# EAGLE library part 831-3606 (library con-wago_7.62mm)
Serie 831, Stiftleiste (für Leiterplatten) mit geraden Einlötstiften / Series 831, Male header (for PCBs) with straight solder pins Polzahl / Pole No.: 6 Bemessungsspannung / Rated Voltage: 630 V Nennstrom / Nominal Current: 41 A Lötstiftlänge: / Solder Pin Length: 4 mm Farbe / Color: lichtgrau / light gray Stand: 01.01.2012. Die jeweils aktuellen Daten zu diesem Artikel finden Sie in unserem Produktkatalog, den Sie unter www.wago.com einsehen können. As of: 01/01/2012. Please find the newest data for this article in our product catalogue, which can be viewed under www.wago.com.
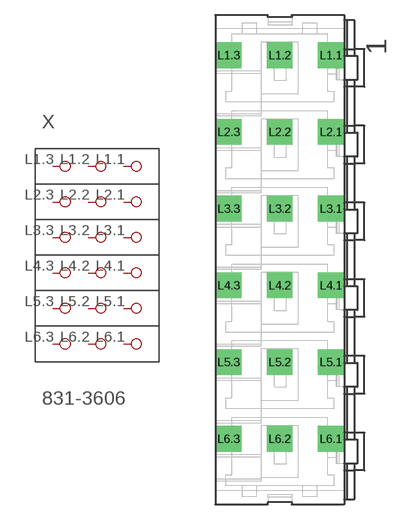
[diagram p4: symbol with the pads of P-831-3606; footprint P-831-3606]

Designator prefix X

## 831-3606  [P-831-3606]
L1.1  P1.1
L1.2  P1.2
L1.3  P1.3
L2.1  P2.1
L2.2  P2.2
L2.3  P2.3
L3.1  P3.1
L3.2  P3.2
L3.3  P3.3
L4.1  P4.1
L4.2  P4.2
L4.3  P4.3
L5.1  P5.1
L5.2  P5.2
L5.3  P5.3
L6.1  P6.1
L6.2  P6.2
L6.3  P6.3

## Footprint P-831-3606 (pad centres in mm)
drill 1.7 square: L1.1 4.08,20.32; L1.2 -1,20.32; L1.3 -6.08,20.32; L2.1 4.08,12.7; L2.2 -1,12.7; L2.3 -6.08,12.7; L3.1 4.08,5.08; L3.2 -1,5.08; L3.3 -6.08,5.08; L4.1 4.08,-2.54; L4.2 -1,-2.54; L4.3 -6.08,-2.54; L5.1 4.07,-10.16; L5.2 -1.01,-10.16; L5.3 -6.09,-10.16; L6.1 4.07,-17.78; L6.2 -1.01,-17.78; L6.3 -6.09,-17.78